# Altium schematic symbol library GRM21BR61E106MA73L.SchLib: 2 symbols
Pins are listed as number, name and electrical type; pins without a type are passive.

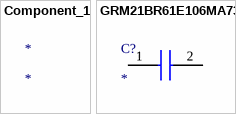
[diagram p0: symbols Component_1 to GRM21BR61E106MA73L]

## Component_1
designator *

## GRM21BR61E106MA73L
designator C?
Capacitor; Manufacturer_Name: Murata Electronics; Manufacturer_Part_Number: GRM21BR61E106MA73L; Description: Multilayer Ceramic Capacitors MLCC - SMD/SMT 0805 10uF 25volts X5R 20%; Datasheet Link: https://componentsearchengine.com//GRM21BR61E106MA73L.pdf; Height: 1.45mm; Mouser2 Part Number: 81-GRM21BR61E106MA3L; Mouser2 Price/Stock: https://www.mouser.com/Search/Refine.aspx?Keyword=81-GRM21BR61E106MA3L
footprint CAPC2012X145N
pins: 1, 2